# Altium schematic symbol library Header 2X25.Schlib: 2 symbols
Pins are listed as number, name and electrical type; pins without a type are passive.

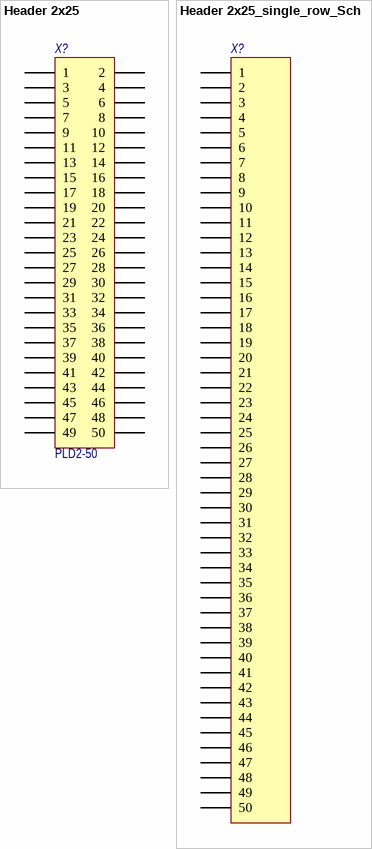
[diagram p0: symbols Header 2x25 to Header 2x25_single_row_Sch]

## Header 2x25
designator X?, comment Наименование: PLD2-50  (hidden comment: Header 2X25)
Header, 50-Pin, Dual row; Потребление, Вт: 0,0; Назначение: Header, 50-Pin, Dual row
footprint PLD2-50
footprint PLD2-50R
pins: 1, 2, 3, 4, 5, 6, 7, 8, 9, 10, 11, 12, 13, 14, 15, 16, 17, 18, 19, 20, 21, 22, 23, 24, 25, 26, 27, 28, 29, 30, 31, 32, 33, 34, 35, 36, 37, 38, 39, 40, 41, 42, 43, 44, 45, 46, 47, 48, 49, 50

## Header 2x25_single_row_Sch
designator X?, comment Header 2X25  (value not drawn)
Header, 50-Pin, Dual row; Назначение: Header, 20-Pin, Dual row; Потребление, Вт: 0,0
footprint PLD2-50
pins: 1, 2, 3, 4, 5, 6, 7, 8, 9, 10, 11, 12, 13, 14, 15, 16, 17, 18, 19, 20, 21, 22, 23, 24, 25, 26, 27, 28, 29, 30, 31, 32, 33, 34, 35, 36, 37, 38, 39, 40, 41, 42, 43, 44, 45, 46, 47, 48, 49, 50